# Altium footprint library 36471662.PcbLib: 1 footprints
Each footprint in its own frame and in the unit in brackets; x right, y up, seen from the top. Pads: shape width x height; smd on the part's side, far side on the other; paste and mask are expansions set on the pad; w line width, h text height; cw(c..) or ccw(c..) is an arc to the next point about the centre after c.
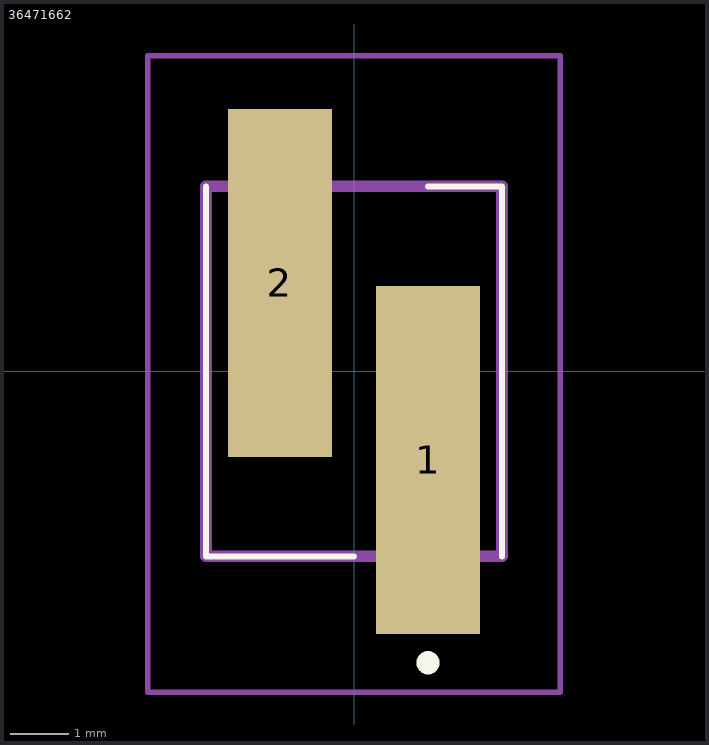
[diagram p0: the footprint, top view; thin cyan lines are the x and y axes]

## 36471662 [mm]
pads (2):
  rect 1.78x5.97 smd: 1(1.27,-1.52) 2(-1.27,1.52)
Top Overlay:
  lines w0.1: -2.54,3.175 -2.54,-3.175 0,-3.175 ; 1.27,3.175 2.54,3.175 2.54,-3.175
  lines w0.2: 1.27,-5.1 cw(c1.27,-5) 1.27,-4.9 ; 1.27,-5.1 1.27,-5.1 ; 1.27,-5.1 ccw(c1.27,-5) 1.27,-4.9 ; 1.27,-4.9 1.27,-4.9
Mechanical 15:
  lines w0.2: -2.54,-3.175 2.54,-3.175 2.54,3.175 -2.54,3.175 -2.54,-3.175
Mechanical 20:
  lines w0.1: -3.54,-5.505 3.54,-5.505 3.54,5.415 -3.54,5.415 -3.54,-5.505